# Altium integrated library Altium_WR-SMA (rev20a).IntLib: 20 symbols
Pins are listed as number, name and electrical type; pins without a type are passive.

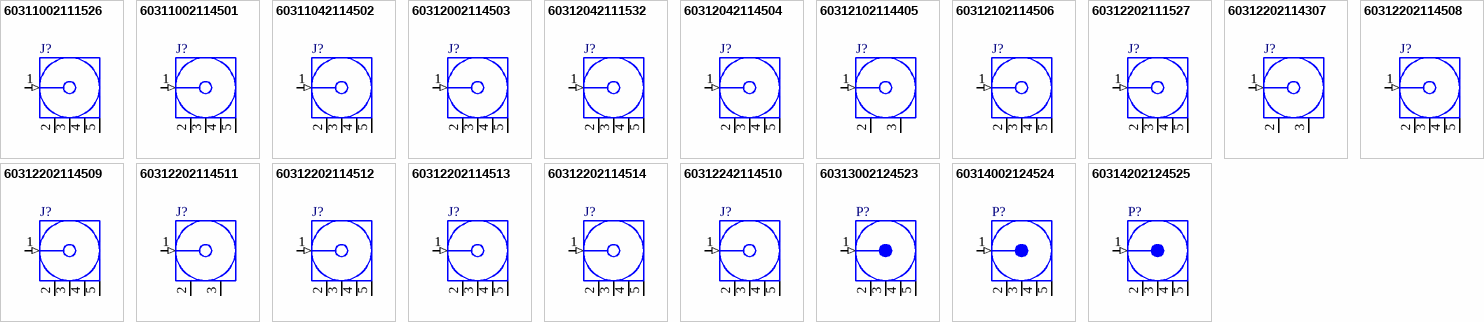
[diagram p0: symbols 60311002111526 to 60314202124525]

## 60311002111526
designator J?
WR-SMA Connector, PCB THT Jack, Right Angle; Manufacturer Part Number: 60311002111526; Manufacturer: Wurth Elektronik; Impedance: 50Ohm; Connector Type: SMA; Frequency Range: DC~6GHz; Interface: MIL-STD-348; Center Contact Diameter: 1.27mm; ComponentLink1Description: Manufacturer; ComponentLink1URL: http://www.we-online.de; ComponentLink2Description: Datasheet; ComponentLink2URL: https://www.we-online.com/catalog/datasheet/60311002111526.pdf; Published Date: June 2020; Operating Temperature: -65 to +165degC; Gender: Jack; Packaging: Tray; Mounting Technology: THT; Orientation Type: Right Angle
footprint 60311002111526
pins: 1 Signal (in) "Signal Pin", 2 GND (power), 3 GND (power), 4 GND (power), 5 GND (power)

## 60311002114501
designator J?
WR-SMA Connector, PCB THT Jack, Right Angle, with Anti-Torque Thread; Manufacturer Part Number: 60311002114501; Manufacturer: Wurth Elektronik; Impedance: 50Ohm; Connector Type: SMA; Frequency Range: DC~18GHz; Interface: MIL-STD-348; Center Contact Diameter: 1.27mm; ComponentLink1Description: Manufacturer; ComponentLink1URL: http://www.we-online.de; ComponentLink2Description: Datasheet; ComponentLink2URL: https://www.we-online.com/catalog/datasheet/60311002114501.pdf; Published Date: June 2020; Operating Temperature: -65 to +165degC; Gender: Jack; Packaging: Tray; Mounting Technology: THT; Orientation Type: Right Angle
footprint 60311002114501
pins: 1 Signal (in) "Signal Pin", 2 GND (power), 3 GND (power), 4 GND (power), 5 GND (power)

## 60311042114502
designator J?
WR-SMA Connector, PCB THT Jack, Right Angle, Rear Mount Bulkhead; Manufacturer Part Number: 60311042114502; Manufacturer: Wurth Elektronik; Impedance: 50Ohm; Connector Type: SMA; Frequency Range: DC~12.4GHz; Interface: MIL-STD-348; Center Contact Diameter: 1.27mm; ComponentLink1Description: Manufacturer; ComponentLink1URL: http://www.we-online.de; ComponentLink2Description: Datasheet; ComponentLink2URL: https://www.we-online.com/catalog/datasheet/60311042114502.pdf; Published Date: June 2020; Operating Temperature: -65 to +165degC; Gender: Jack; Packaging: Tray; Mounting Technology: THT; Orientation Type: Right Angle
footprint 60311042114502
pins: 1 Signal (in) "Signal Pin", 2 GND (power), 3 GND (power), 4 GND (power), 5 GND (power)

## 60312002114503
designator J?
WR-SMA Connector, PCB THT Jack, Straight; Manufacturer Part Number: 60312002114503; Manufacturer: Wurth Elektronik; Impedance: 50Ohm; Connector Type: SMA; Frequency Range: DC~18GHz; Interface: MIL-STD-348; Center Contact Diameter: 1.27mm; ComponentLink1Description: Manufacturer; ComponentLink1URL: http://www.we-online.de; ComponentLink2Description: Datasheet; ComponentLink2URL: https://www.we-online.com/catalog/datasheet/60312002114503.pdf; Published Date: June 2020; Operating Temperature: -65 to +165degC; Gender: Jack; Packaging: Tray; Mounting Technology: THT; Orientation Type: Straight
footprint 60312002114503
pins: 1 Signal (in) "Signal Pin", 2 GND (power), 3 GND (power), 4 GND (power), 5 GND (power)

## 60312042111532
designator J?
WR-SMA Connector, PCB THT Jack, Straight, Rear Mount Bulkhead 11mm; Manufacturer Part Number: 60312042111532; Manufacturer: Wurth Elektronik; Impedance: 50Ohm; Connector Type: SMA; Frequency Range: DC~6GHz; Interface: MIL-STD-348; Center Contact Diameter: 1.27mm; ComponentLink1Description: Manufacturer; ComponentLink1URL: http://www.we-online.de; ComponentLink2Description: Datasheet; ComponentLink2URL: https://www.we-online.com/catalog/datasheet/60312042111532.pdf; Published Date: June 2020; Operating Temperature: -65 to +165degC; Gender: Jack; Packaging: Tray; Mounting Technology: THT; Orientation Type: Straight
footprint 60312042111532 (Footprint not found)
pins: 1 Signal (in) "Signal Pin", 2 GND (power), 3 GND (power), 4 GND (power), 5 GND (power)

## 60312042114504
designator J?
WR-SMA Connector, PCB THT Jack, Straight, Rear Mount Bulkhead; Manufacturer Part Number: 60312042114504; Manufacturer: Wurth Elektronik; Impedance: 50Ohm; Connector Type: SMA; Frequency Range: DC~18GHz; Interface: MIL-STD-348; Center Contact Diameter: 1.27mm; ComponentLink1Description: Manufacturer; ComponentLink1URL: http://www.we-online.de; ComponentLink2Description: Datasheet; ComponentLink2URL: https://www.we-online.com/catalog/datasheet/60312042114504.pdf; Published Date: June 2020; Operating Temperature: -65 to +165degC; Gender: Jack; Packaging: Tray; Mounting Technology: THT; Orientation Type: Straight
footprint 60312042114504
pins: 1 Signal (in) "Signal Pin", 2 GND (power), 3 GND (power), 4 GND (power), 5 GND (power)

## 60312102114405
designator J?
WR-SMA Connector, PCB SMT Jack, Straight; Manufacturer Part Number: 60312102114405; Manufacturer: Wurth Elektronik; Impedance: 50Ohm; Connector Type: SMA; Frequency Range: DC~18GHz; Interface: MIL-STD-348; Center Contact Diameter: 1.27mm; ComponentLink1Description: Manufacturer; ComponentLink1URL: http://www.we-online.de; ComponentLink2Description: Datasheet; ComponentLink2URL: https://www.we-online.com/catalog/datasheet/60312102114405.pdf; Published Date: June 2020; Operating Temperature: -65 to +165degC; Gender: Jack; Packaging: Tape and Reel; Mounting Technology: SMT; Orientation Type: Straight
footprint 60312102114405
pins: 1 Signal (in) "Signal Pin", 2 GND (power), 3 GND (power)

## 60312102114506
designator J?
WR-SMA Connector, PCB THR Jack, Straight; Manufacturer Part Number: 60312102114506; Manufacturer: Wurth Elektronik; Impedance: 50Ohm; Connector Type: SMA; Frequency Range: DC~18GHz; Interface: MIL-STD-348; Center Contact Diameter: 1.27mm; ComponentLink1Description: Manufacturer; ComponentLink1URL: http://www.we-online.de; ComponentLink2Description: Datasheet; ComponentLink2URL: https://www.we-online.com/catalog/datasheet/60312102114506.pdf; Published Date: June 2020; Operating Temperature: -65 to +165degC; Gender: Jack; Packaging: Tray; Mounting Technology: THR; Orientation Type: Straight
footprint 60312102114506
pins: 1 Signal (in) "Signal Pin", 2 GND (power), 3 GND (power), 4 GND (power), 5 GND (power)

## 60312202111527
designator J?
WR-SMA Connector, PCB End Launch Jack, Straight, 6.35SQ Flange Round Post for PCB 1.6mm; Manufacturer Part Number: 60312202111527; Manufacturer: Wurth Elektronik; Impedance: 50Ohm; Connector Type: SMA; Frequency Range: DC~18GHz; Interface: MIL-STD-348; Center Contact Diameter: 0.76mm; ComponentLink1Description: Manufacturer; ComponentLink1URL: http://www.we-online.de; ComponentLink2Description: Datasheet; ComponentLink2URL: https://www.we-online.com/catalog/datasheet/60312202111527.pdf; Published Date: June 2020; Operating Temperature: -65 to +165degC; Gender: Jack; Packaging: Tray; Mounting Technology: End Launch; Orientation Type: Straight
footprint 60312202111527
pins: 1 Signal (in) "Signal Pin", 2 GND (power), 3 GND (power), 4 GND (power), 5 GND (power)

## 60312202114307
designator J?
WR-SMA Connector, PCB End Launch Jack, Straight, Edge Card for PCB 1.6mm Max.; Manufacturer Part Number: 60312202114307; Manufacturer: Wurth Elektronik; Impedance: 50Ohm; Connector Type: SMA; Frequency Range: DC~18GHz; Interface: MIL-STD-348; Center Contact Diameter: 0.76mm; ComponentLink1Description: Manufacturer; ComponentLink1URL: http://www.we-online.de; ComponentLink2Description: Datasheet; ComponentLink2URL: https://www.we-online.com/catalog/datasheet/60312202114307.pdf; Published Date: June 2020; Operating Temperature: -65 to +165degC; Gender: Jack; Packaging: Tape and Reel; Mounting Technology: End Launch; Orientation Type: Straight
footprint 60312202114307
pins: 1 Signal (in) "Signal Pin", 2 GND (power), 3 GND (power)

## 60312202114508
designator J?
WR-SMA Connector, PCB End Launch Jack, Straight, 6.35SQ Flange Round Post for PCB 1.1mm; Manufacturer Part Number: 60312202114508; Manufacturer: Wurth Elektronik; Impedance: 50Ohm; Connector Type: SMA; Frequency Range: DC~18GHz; Interface: MIL-STD-348; Center Contact Diameter: 0.76mm; ComponentLink1Description: Manufacturer; ComponentLink1URL: http://www.we-online.de; ComponentLink2Description: Datasheet; ComponentLink2URL: https://www.we-online.com/catalog/datasheet/60312202114508.pdf; Published Date: June 2020; Operating Temperature: -65 to +165degC; Gender: Jack; Packaging: Tray; Mounting Technology: End Launch; Orientation Type: Straight
footprint 60312202114508
pins: 1 Signal (in) "Signal Pin", 2 GND (power), 3 GND (power), 4 GND (power), 5 GND (power)

## 60312202114509
designator J?
WR-SMA Connector, PCB End Launch Jack, Straight, Round Post for PCB 1.6mm; Manufacturer Part Number: 60312202114509; Manufacturer: Wurth Elektronik; Impedance: 50Ohm; Connector Type: SMA; Frequency Range: DC~18GHz; Interface: MIL-STD-348; Center Contact Diameter: 0.76mm; ComponentLink1Description: Manufacturer; ComponentLink1URL: http://www.we-online.de; ComponentLink2Description: Datasheet; ComponentLink2URL: https://www.we-online.com/catalog/datasheet/60312202114509.pdf; Published Date: June 2020; Operating Temperature: -65 to +165degC; Gender: Jack; Packaging: Tray; Mounting Technology: End Launch; Orientation Type: Straight
footprint 60312202114509
pins: 1 Signal (in) "Signal Pin", 2 GND (power), 3 GND (power), 4 GND (power), 5 GND (power)

## 60312202114511
designator J?
WR-SMA Connector, PCB End Launch Jack, Straight, Flat Tab with THT Grounding Pins for PCB 2.8mm Max.; Manufacturer Part Number: 60312202114511; Manufacturer: Wurth Elektronik; Impedance: 50Ohm; Connector Type: SMA; Frequency Range: DC~18GHz; Interface: MIL-STD-348; Center Contact Diameter: 0.51 WIDE x 0.25 THK; ComponentLink1Description: Manufacturer; ComponentLink1URL: http://www.we-online.de; ComponentLink2Description: Datasheet; ComponentLink2URL: https://www.we-online.com/catalog/datasheet/60312202114511.pdf; Published Date: June 2020; Operating Temperature: -65 to +165degC; Gender: Jack; Packaging: Tray; Mounting Technology: End Launch; Orientation Type: Straight
footprint 60312202114511
pins: 1 Signal (in) "Signal Pin", 2 GND (power), 3 GND (power)

## 60312202114512
designator J?
WR-SMA Connector, PCB End Launch Jack, Straight, Flat Tab for 1.1mm; Manufacturer Part Number: 60312202114512; Manufacturer: Wurth Elektronik; Impedance: 50Ohm; Connector Type: SMA; Frequency Range: DC~18GHz; Interface: MIL-STD-348; Center Contact Diameter: 0.51 WIDE x 0.25 THK; ComponentLink1Description: Manufacturer; ComponentLink1URL: http://www.we-online.de; ComponentLink2Description: Datasheet; ComponentLink2URL: https://www.we-online.com/catalog/datasheet/60312202114512.pdf; Published Date: June 2020; Operating Temperature: -65 to +165degC; Gender: Jack; Packaging: Tray; Mounting Technology: End Launch; Orientation Type: Straight
footprint 60312202114512
pins: 1 Signal (in) "Signal Pin", 2 GND (power), 3 GND (power), 4 GND (power), 5 GND (power)

## 60312202114513
designator J?
WR-SMA Connector, PCB End Launch Jack, Straight, 6.35SQ Flange Flat Tab 1.6mm; Manufacturer Part Number: 60312202114513; Manufacturer: Wurth Elektronik; Impedance: 50Ohm; Connector Type: SMA; Frequency Range: DC~18GHz; Interface: MIL-STD-348; Center Contact Diameter: 0.51 WIDE x 0.25 THK; ComponentLink1Description: Manufacturer; ComponentLink1URL: http://www.we-online.de; ComponentLink2Description: Datasheet; ComponentLink2URL: https://www.we-online.com/catalog/datasheet/60312202114513.pdf; Published Date: June 2020; Operating Temperature: -65 to +165degC; Gender: Jack; Packaging: Tray; Mounting Technology: End Launch; Orientation Type: Straight
footprint 60312202114513
pins: 1 Signal (in) "Signal Pin", 2 GND (power), 3 GND (power), 4 GND (power), 5 GND (power)

## 60312202114514
designator J?
WR-SMA Connector, PCB End Launch Jack, Straight, Flat Tab for PCB 1.6mm; Manufacturer Part Number: 60312202114514; Manufacturer: Wurth Elektronik; Impedance: 50Ohm; Connector Type: SMA; Frequency Range: DC~18GHz; Interface: MIL-STD-348; Center Contact Diameter: 0.51 WIDE x 0.25 THK; ComponentLink1Description: Manufacturer; ComponentLink1URL: http://www.we-online.de; ComponentLink2Description: Datasheet; ComponentLink2URL: https://www.we-online.com/catalog/datasheet/60312202114514.pdf; Published Date: June 2020; Operating Temperature: -65 to +165degC; Gender: Jack; Packaging: Tray; Mounting Technology: End Launch; Orientation Type: Straight
footprint 60312202114514
pins: 1 Signal (in) "Signal Pin", 2 GND (power), 3 GND (power), 4 GND (power), 5 GND (power)

## 60312242114510
designator J?
WR-SMA Connector, PCB End Launch Jack, Straight, Round Post Rear Mount Bulkhead for PCB 1.6mm; Manufacturer Part Number: 60312242114510; Manufacturer: Wurth Elektronik; Impedance: 50Ohm; Connector Type: SMA; Frequency Range: DC~18GHz; Interface: MIL-STD-348; Center Contact Diameter: 0.76mm; ComponentLink1Description: Manufacturer; ComponentLink1URL: http://www.we-online.de; ComponentLink2Description: Datasheet; ComponentLink2URL: https://www.we-online.com/catalog/datasheet/60312242114510.pdf; Published Date: June 2020; Operating Temperature: -65 to +165degC; Gender: Jack; Packaging: Tray; Mounting Technology: End Launch; Orientation Type: Straight
footprint 60312242114510
pins: 1 Signal (in) "Signal Pin", 2 GND (power), 3 GND (power), 4 GND (power), 5 GND (power)

## 60313002124523
designator P?
WR-SMA Connector, PCB THT Plug, Right Angle; Manufacturer Part Number: 60313002124523; Manufacturer: Wurth Elektronik; Impedance: 50Ohm; Connector Type: SMA; Frequency Range: DC~18GHz; Interface: MIL-STD-348; Center Contact Diameter: 1.27mm; ComponentLink1Description: Manufacturer; ComponentLink1URL: http://www.we-online.de; ComponentLink2Description: Datasheet; ComponentLink2URL: https://www.we-online.com/catalog/datasheet/60313002124523.pdf; Published Date: June 2020; Operating Temperature: -65 to +165degC; Gender: Plug; Packaging: Tray; Mounting Technology: THT; Orientation Type: Right Angle
footprint 60313002124523
pins: 1 Signal (in) "Signal Pin", 2 GND (power), 3 GND (power), 4 GND (power), 5 GND (power)

## 60314002124524
designator P?
WR-SMA Connector, PCB THT Plug, Straight; Manufacturer Part Number: 60314002124524; Manufacturer: Wurth Elektronik; Impedance: 50Ohm; Connector Type: SMA; Frequency Range: DC~18GHz; Interface: MIL-STD-348; Center Contact Diameter: 1.27mm; ComponentLink1Description: Manufacturer; ComponentLink1URL: http://www.we-online.de; ComponentLink2Description: Datasheet; ComponentLink2URL: https://www.we-online.com/catalog/datasheet/60314002124524.pdf; Published Date: June 2020; Operating Temperature: -65 to +165degC; Gender: Plug; Packaging: Tray; Mounting Technology: THT; Orientation Type: Straight
footprint 60314002124524
pins: 1 Signal (in) "Signal Pin", 2 GND (power), 3 GND (power), 4 GND (power), 5 GND (power)

## 60314202124525
designator P?
WR-SMA Connector, PCB End Launch Plug, Straight, Round Post for PCB 1.6mm; Manufacturer Part Number: 60314202124525; Manufacturer: Wurth Elektronik; Impedance: 50Ohm; Connector Type: SMA; Frequency Range: DC~18GHz; Interface: MIL-STD-348; Center Contact Diameter: 0.76mm; ComponentLink1Description: Manufacturer; ComponentLink1URL: http://www.we-online.de; ComponentLink2Description: Datasheet; ComponentLink2URL: https://www.we-online.com/catalog/datasheet/60314202124525.pdf; Published Date: June 2020; Operating Temperature: -65 to +165degC; Gender: Plug; Packaging: Tray; Mounting Technology: End Launch; Orientation Type: Straight
footprint 60314202124525
pins: 1 Signal (in) "Signal Pin", 2 GND (power), 3 GND (power), 4 GND (power), 5 GND (power)